# EAGLE library part TMS470R1A64 (library TMS470)
TMS470R1x 16/32-Bit RISC Core (ARM7TDMI®) 64 kbytes FLASH 8 kbytes SRAM 13 Channels Timer 8 Channels 10-bit A/D 2x SPI, 2x SCI, 1x C2SI 1 SCC CAN Modul 40 IO Pins Max 48 MHz
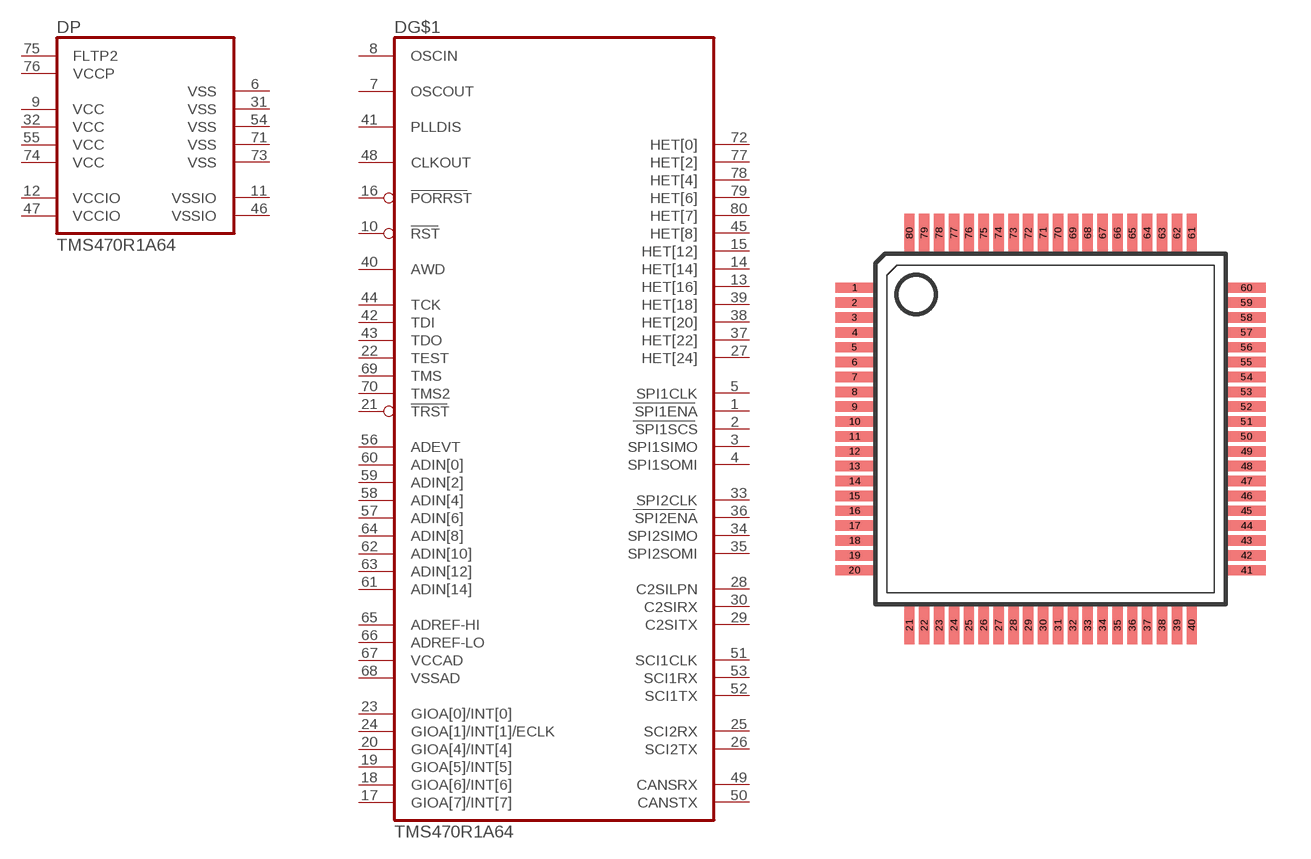
[diagram p3: symbol with the pads of PQFP80; footprint PQFP80]

Designator prefix D; gates G$1=TMS470R1A64 P=SUPPLY-64

## TMS470R1A64PNT  [PQFP80]
1  G$1:SPI1ENA
2  G$1:SPI1SCS
3  G$1:SPI1SIMO
4  G$1:SPI1SOMI
5  G$1:SPI1CLK
6  P:VSS  pwr
7  G$1:OSCOUT  out
8  G$1:OSCIN  in
9  P:VCC  pwr
10  G$1:RST
11  P:VSSIO  pwr
12  P:VCCIO  pwr
13  G$1:HET[16]
14  G$1:HET[14]
15  G$1:HET[12]
16  G$1:PORRST  in
17  G$1:GIOA[7]/INT[7]
18  G$1:GIOA[6]/INT[6]
19  G$1:GIOA[5]/INT[5]
20  G$1:GIOA[4]/INT[4]
21  G$1:TRST  in
22  G$1:TEST  in
23  G$1:GIOA[0]/INT[0]
24  G$1:GIOA[1]/INT[1]/ECLK
25  G$1:SCI2RX
26  G$1:SCI2TX
27  G$1:HET[24]
28  G$1:C2SILPN
29  G$1:C2SITX
30  G$1:C2SIRX
31  P:VSS  pwr
32  P:VCC  pwr
33  G$1:SPI2CLK
34  G$1:SPI2SIMO
35  G$1:SPI2SOMI
36  G$1:SPI2ENA
37  G$1:HET[22]
38  G$1:HET[20]
39  G$1:HET[18]
40  G$1:AWD  in
41  G$1:PLLDIS  in
42  G$1:TDI  in
43  G$1:TDO  out
44  G$1:TCK  in
45  G$1:HET[8]
46  P:VSSIO  pwr
47  P:VCCIO  pwr
48  G$1:CLKOUT
49  G$1:CANSRX
50  G$1:CANSTX
51  G$1:SCI1CLK
52  G$1:SCI1TX
53  G$1:SCI1RX
54  P:VSS  pwr
55  P:VCC  pwr
56  G$1:ADEVT
57  G$1:ADIN[6]  in
58  G$1:ADIN[4]  in
59  G$1:ADIN[2]  in
60  G$1:ADIN[0]  in
61  G$1:ADIN[14]  in
62  G$1:ADIN[10]  in
63  G$1:ADIN[12]  in
64  G$1:ADIN[8]  in
65  G$1:ADREF-HI  in
66  G$1:ADREF-LO  in
67  G$1:VCCAD  pwr
68  G$1:VSSAD  pwr
69  G$1:TMS  in
70  G$1:TMS2  in
71  P:VSS  pwr
72  G$1:HET[0]
73  P:VSS  pwr
74  P:VCC  pwr
75  P:FLTP2  pas
76  P:VCCP  pwr
77  G$1:HET[2]
78  G$1:HET[4]
79  G$1:HET[6]
80  G$1:HET[7]

## Footprint PQFP80 (pad centres in mm)
Platic Quad Flat Package PN (S-PQFP-G80)
smd 1.3 x 0.35: 1 -6.595,4.75; 2 -6.595,4.25; 3 -6.595,3.75; 4 -6.595,3.25; 5 -6.595,2.75; 6 -6.595,2.25; 7 -6.595,1.75; 8 -6.595,1.25; 9 -6.595,0.75; 10 -6.595,0.25; 11 -6.595,-0.25; 12 -6.595,-0.75; 13 -6.595,-1.25; 14 -6.595,-1.75; 15 -6.595,-2.25; 16 -6.595,-2.75; 17 -6.595,-3.25; 18 -6.595,-3.75; 19 -6.595,-4.25; 20 -6.595,-4.75; 41 6.595,-4.75; 42 6.595,-4.25; 43 6.595,-3.75; 44 6.595,-3.25; 45 6.595,-2.75; 46 6.595,-2.25; 47 6.595,-1.75; 48 6.595,-1.25; 49 6.595,-0.75; 50 6.595,-0.25; 51 6.595,0.25; 52 6.595,0.75; 53 6.595,1.25; 54 6.595,1.75; 55 6.595,2.25; 56 6.595,2.75; 57 6.595,3.25; 58 6.595,3.75; 59 6.595,4.25; 60 6.595,4.75
smd 0.35 x 1.3: 21 -4.75,-6.595; 22 -4.25,-6.595; 23 -3.75,-6.595; 24 -3.25,-6.595; 25 -2.75,-6.595; 26 -2.25,-6.595; 27 -1.75,-6.595; 28 -1.25,-6.595; 29 -0.75,-6.595; 30 -0.25,-6.595; 31 0.25,-6.595; 32 0.75,-6.595; 33 1.25,-6.595; 34 1.75,-6.595; 35 2.25,-6.595; 36 2.75,-6.595; 37 3.25,-6.595; 38 3.75,-6.595; 39 4.25,-6.595; 40 4.75,-6.595; 61 4.75,6.595; 62 4.25,6.595; 63 3.75,6.595; 64 3.25,6.595; 65 2.75,6.595; 66 2.25,6.595; 67 1.75,6.595; 68 1.25,6.595; 69 0.75,6.595; 70 0.25,6.595; 71 -0.25,6.595; 72 -0.75,6.595; 73 -1.25,6.595; 74 -1.75,6.595; 75 -2.25,6.595; 76 -2.75,6.595; 77 -3.25,6.595; 78 -3.75,6.595; 79 -4.25,6.595; 80 -4.75,6.595